# Altium footprint library Altera.PcbLib: 4 footprints (part 4 of 4)
Each footprint in its own frame and in the unit in brackets; x right, y up, seen from the top. Pads: shape width x height; smd on the part's side, far side on the other; paste and mask are expansions set on the pad; w line width, h text height; cw(c..) or ccw(c..) is an arc to the next point about the centre after c.
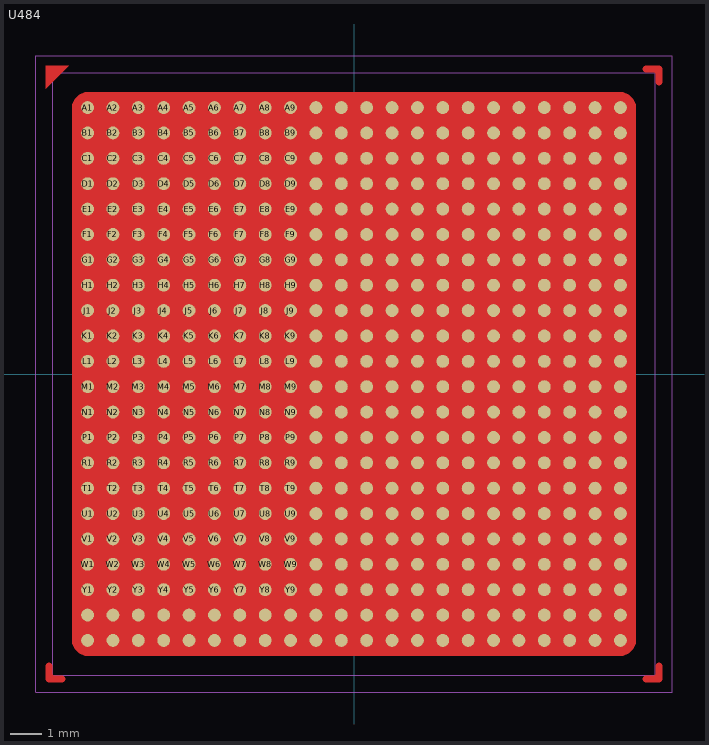
[diagram p3: the footprint, top view; thin cyan lines are the x and y axes]

## U484 [mil]
height 86.61
pads (484):
  round 16 smd mask+2: A1(-330.71,330.71) A2(-299.21,330.71) A3(-267.72,330.71) A4(-236.22,330.71) A5(-204.72,330.71) A6(-173.23,330.71) A7(-141.73,330.71) A8(-110.24,330.71) A9(-78.74,330.71) A10(-47.24,330.71) A11(-15.75,330.71) A12(15.75,330.71) A13(47.24,330.71) A14(78.74,330.71) A15(110.24,330.71) A16(141.73,330.71) A17(173.23,330.71) A18(204.72,330.71) A19(236.22,330.71) A20(267.72,330.71) A21(299.21,330.71) A22(330.71,330.71) AA1(-330.71,-299.21) AA2(-299.21,-299.21) AA3(-267.72,-299.21) AA4(-236.22,-299.21) AA5(-204.72,-299.21) AA6(-173.23,-299.21) AA7(-141.73,-299.21) AA8(-110.24,-299.21) AA9(-78.74,-299.21) AA10(-47.24,-299.21) AA11(-15.75,-299.21) AA12(15.75,-299.21) AA13(47.24,-299.21) AA14(78.74,-299.21) AA15(110.24,-299.21) AA16(141.73,-299.21) AA17(173.23,-299.21) AA18(204.72,-299.21) AA19(236.22,-299.21) AA20(267.72,-299.21) AA21(299.21,-299.21) AA22(330.71,-299.21) AB1(-330.71,-330.71) AB2(-299.21,-330.71) AB3(-267.72,-330.71) AB4(-236.22,-330.71) AB5(-204.72,-330.71) AB6(-173.23,-330.71) AB7(-141.73,-330.71) AB8(-110.24,-330.71) AB9(-78.74,-330.71) AB10(-47.24,-330.71) AB11(-15.75,-330.71) AB12(15.75,-330.71) AB13(47.24,-330.71) AB14(78.74,-330.71) AB15(110.24,-330.71) AB16(141.73,-330.71) AB17(173.23,-330.71) AB18(204.72,-330.71) AB19(236.22,-330.71) AB20(267.72,-330.71) AB21(299.21,-330.71) AB22(330.71,-330.71) B1(-330.71,299.21) B2(-299.21,299.21) B3(-267.72,299.21) B4(-236.22,299.21) B5(-204.72,299.21) B6(-173.23,299.21) B7(-141.73,299.21) B8(-110.24,299.21) B9(-78.74,299.21) B10(-47.24,299.21) B11(-15.75,299.21) B12(15.75,299.21) B13(47.24,299.21) B14(78.74,299.21) B15(110.24,299.21) B16(141.73,299.21) B17(173.23,299.21) B18(204.72,299.21) B19(236.22,299.21) B20(267.72,299.21) B21(299.21,299.21) B22(330.71,299.21) C1(-330.71,267.72) C2(-299.21,267.72) C3(-267.72,267.72) C4(-236.22,267.72) C5(-204.72,267.72) C6(-173.23,267.72) C7(-141.73,267.72) C8(-110.24,267.72) C9(-78.74,267.72) C10(-47.24,267.72) C11(-15.75,267.72) C12(15.75,267.72) C13(47.24,267.72) C14(78.74,267.72) C15(110.24,267.72) C16(141.73,267.72) C17(173.23,267.72) C18(204.72,267.72) C19(236.22,267.72) C20(267.72,267.72) C21(299.21,267.72) C22(330.71,267.72) D1(-330.71,236.22) D2(-299.21,236.22) D3(-267.72,236.22) D4(-236.22,236.22) D5(-204.72,236.22) D6(-173.23,236.22) D7(-141.73,236.22) D8(-110.24,236.22) D9(-78.74,236.22) D10(-47.24,236.22) D11(-15.75,236.22) D12(15.75,236.22) D13(47.24,236.22) D14(78.74,236.22) D15(110.24,236.22) D16(141.73,236.22) D17(173.23,236.22) D18(204.72,236.22) D19(236.22,236.22) D20(267.72,236.22) D21(299.21,236.22) D22(330.71,236.22) E1(-330.71,204.72) E2(-299.21,204.72) E3(-267.72,204.72) E4(-236.22,204.72) E5(-204.72,204.72) E6(-173.23,204.72) E7(-141.73,204.72) E8(-110.24,204.72) E9(-78.74,204.72) E10(-47.24,204.72) E11(-15.75,204.72) E12(15.75,204.72) E13(47.24,204.72) E14(78.74,204.72) E15(110.24,204.72) E16(141.73,204.72) E17(173.23,204.72) E18(204.72,204.72) E19(236.22,204.72) E20(267.72,204.72) E21(299.21,204.72) E22(330.71,204.72) F1(-330.71,173.23) F2(-299.21,173.23) F3(-267.72,173.23) F4(-236.22,173.23) F5(-204.72,173.23) F6(-173.23,173.23) F7(-141.73,173.23) F8(-110.24,173.23) F9(-78.74,173.23) F10(-47.24,173.23) F11(-15.75,173.23) F12(15.75,173.23) F13(47.24,173.23) F14(78.74,173.23) F15(110.24,173.23) F16(141.73,173.23) F17(173.23,173.23) F18(204.72,173.23) F19(236.22,173.23) F20(267.72,173.23) F21(299.21,173.23) F22(330.71,173.23) G1(-330.71,141.73) G2(-299.21,141.73) G3(-267.72,141.73) G4(-236.22,141.73) G5(-204.72,141.73) G6(-173.23,141.73) G7(-141.73,141.73) G8(-110.24,141.73) G9(-78.74,141.73) G10(-47.24,141.73) G11(-15.75,141.73) G12(15.75,141.73) G13(47.24,141.73) G14(78.74,141.73) G15(110.24,141.73) G16(141.73,141.73) G17(173.23,141.73) G18(204.72,141.73) G19(236.22,141.73) G20(267.72,141.73) G21(299.21,141.73) G22(330.71,141.73) H1(-330.71,110.24) H2(-299.21,110.24) H3(-267.72,110.24) H4(-236.22,110.24) H5(-204.72,110.24) H6(-173.23,110.24) H7(-141.73,110.24) H8(-110.24,110.24) H9(-78.74,110.24) H10(-47.24,110.24) H11(-15.75,110.24) H12(15.75,110.24) H13(47.24,110.24) H14(78.74,110.24) H15(110.24,110.24) H16(141.73,110.24) H17(173.23,110.24) H18(204.72,110.24) H19(236.22,110.24) H20(267.72,110.24) H21(299.21,110.24) H22(330.71,110.24) J1(-330.71,78.74) J2(-299.21,78.74) J3(-267.72,78.74) J4(-236.22,78.74) J5(-204.72,78.74) J6(-173.23,78.74) J7(-141.73,78.74) J8(-110.24,78.74) J9(-78.74,78.74) J10(-47.24,78.74) J11(-15.75,78.74) J12(15.75,78.74) J13(47.24,78.74) J14(78.74,78.74) J15(110.24,78.74) J16(141.73,78.74) J17(173.23,78.74) J18(204.72,78.74) J19(236.22,78.74) J20(267.72,78.74) J21(299.21,78.74) J22(330.71,78.74) K1(-330.71,47.24) K2(-299.21,47.24) K3(-267.72,47.24) K4(-236.22,47.24) K5(-204.72,47.24) K6(-173.23,47.24) K7(-141.73,47.24) K8(-110.24,47.24) K9(-78.74,47.24) K10(-47.24,47.24) K11(-15.75,47.24) K12(15.75,47.24) K13(47.24,47.24) K14(78.74,47.24) K15(110.24,47.24) K16(141.73,47.24) K17(173.23,47.24) K18(204.72,47.24) K19(236.22,47.24) K20(267.72,47.24) K21(299.21,47.24) K22(330.71,47.24) L1(-330.71,15.75) L2(-299.21,15.75) L3(-267.72,15.75) L4(-236.22,15.75) L5(-204.72,15.75) L6(-173.23,15.75) L7(-141.73,15.75) L8(-110.24,15.75) L9(-78.74,15.75) L10(-47.24,15.75) L11(-15.75,15.75) L12(15.75,15.75) L13(47.24,15.75) L14(78.74,15.75) L15(110.24,15.75) L16(141.73,15.75) L17(173.23,15.75) L18(204.72,15.75) L19(236.22,15.75) L20(267.72,15.75) L21(299.21,15.75) L22(330.71,15.75) M1(-330.71,-15.75) M2(-299.21,-15.75) M3(-267.72,-15.75) M4(-236.22,-15.75) M5(-204.72,-15.75) M6(-173.23,-15.75) M7(-141.73,-15.75) M8(-110.24,-15.75) M9(-78.74,-15.75) M10(-47.24,-15.75) M11(-15.75,-15.75) M12(15.75,-15.75) M13(47.24,-15.75) M14(78.74,-15.75) M15(110.24,-15.75) M16(141.73,-15.75) M17(173.23,-15.75) M18(204.72,-15.75) M19(236.22,-15.75) M20(267.72,-15.75) M21(299.21,-15.75) M22(330.71,-15.75) N1(-330.71,-47.24) N2(-299.21,-47.24) N3(-267.72,-47.24) N4(-236.22,-47.24) N5(-204.72,-47.24) N6(-173.23,-47.24) N7(-141.73,-47.24) N8(-110.24,-47.24) N9(-78.74,-47.24) N10(-47.24,-47.24) N11(-15.75,-47.24) N12(15.75,-47.24) N13(47.24,-47.24) N14(78.74,-47.24) N15(110.24,-47.24) N16(141.73,-47.24) N17(173.23,-47.24) N18(204.72,-47.24) N19(236.22,-47.24) N20(267.72,-47.24) N21(299.21,-47.24) N22(330.71,-47.24) P1(-330.71,-78.74) P2(-299.21,-78.74) P3(-267.72,-78.74) P4(-236.22,-78.74) P5(-204.72,-78.74) P6(-173.23,-78.74) P7(-141.73,-78.74) P8(-110.24,-78.74) P9(-78.74,-78.74) P10(-47.24,-78.74) P11(-15.75,-78.74) P12(15.75,-78.74) P13(47.24,-78.74) P14(78.74,-78.74) P15(110.24,-78.74) P16(141.73,-78.74) P17(173.23,-78.74) P18(204.72,-78.74) P19(236.22,-78.74) P20(267.72,-78.74) P21(299.21,-78.74) P22(330.71,-78.74) R1(-330.71,-110.24) R2(-299.21,-110.24) R3(-267.72,-110.24) R4(-236.22,-110.24) R5(-204.72,-110.24) R6(-173.23,-110.24) R7(-141.73,-110.24) R8(-110.24,-110.24) R9(-78.74,-110.24) R10(-47.24,-110.24) R11(-15.75,-110.24) R12(15.75,-110.24) R13(47.24,-110.24) R14(78.74,-110.24) R15(110.24,-110.24) R16(141.73,-110.24) R17(173.23,-110.24) R18(204.72,-110.24) R19(236.22,-110.24) R20(267.72,-110.24) R21(299.21,-110.24) R22(330.71,-110.24) T1(-330.71,-141.73) T2(-299.21,-141.73) T3(-267.72,-141.73) T4(-236.22,-141.73) T5(-204.72,-141.73) T6(-173.23,-141.73) T7(-141.73,-141.73) T8(-110.24,-141.73) T9(-78.74,-141.73) T10(-47.24,-141.73) T11(-15.75,-141.73) T12(15.75,-141.73) T13(47.24,-141.73) T14(78.74,-141.73) T15(110.24,-141.73) T16(141.73,-141.73) T17(173.23,-141.73) T18(204.72,-141.73) T19(236.22,-141.73) T20(267.72,-141.73) T21(299.21,-141.73) T22(330.71,-141.73) U1(-330.71,-173.23) U2(-299.21,-173.23) U3(-267.72,-173.23) U4(-236.22,-173.23) U5(-204.72,-173.23) U6(-173.23,-173.23) U7(-141.73,-173.23) U8(-110.24,-173.23) U9(-78.74,-173.23) U10(-47.24,-173.23) U11(-15.75,-173.23) U12(15.75,-173.23) U13(47.24,-173.23) U14(78.74,-173.23) U15(110.24,-173.23) U16(141.73,-173.23) U17(173.23,-173.23) U18(204.72,-173.23) U19(236.22,-173.23) U20(267.72,-173.23) U21(299.21,-173.23) U22(330.71,-173.23) V1(-330.71,-204.72) V2(-299.21,-204.72) V3(-267.72,-204.72) V4(-236.22,-204.72) V5(-204.72,-204.72) V6(-173.23,-204.72) V7(-141.73,-204.72) V8(-110.24,-204.72) V9(-78.74,-204.72) V10(-47.24,-204.72) V11(-15.75,-204.72) V12(15.75,-204.72) V13(47.24,-204.72) V14(78.74,-204.72) V15(110.24,-204.72) V16(141.73,-204.72) V17(173.23,-204.72) V18(204.72,-204.72) V19(236.22,-204.72) V20(267.72,-204.72) V21(299.21,-204.72) V22(330.71,-204.72) W1(-330.71,-236.22) W2(-299.21,-236.22) W3(-267.72,-236.22) W4(-236.22,-236.22) W5(-204.72,-236.22) W6(-173.23,-236.22) W7(-141.73,-236.22) W8(-110.24,-236.22) W9(-78.74,-236.22) W10(-47.24,-236.22) W11(-15.75,-236.22) W12(15.75,-236.22) W13(47.24,-236.22) W14(78.74,-236.22) W15(110.24,-236.22) W16(141.73,-236.22) W17(173.23,-236.22) W18(204.72,-236.22) W19(236.22,-236.22) W20(267.72,-236.22) W21(299.21,-236.22) W22(330.71,-236.22) Y1(-330.71,-267.72) Y2(-299.21,-267.72) Y3(-267.72,-267.72) Y4(-236.22,-267.72) Y5(-204.72,-267.72) Y6(-173.23,-267.72) Y7(-141.73,-267.72) Y8(-110.24,-267.72) Y9(-78.74,-267.72) Y10(-47.24,-267.72) Y11(-15.75,-267.72) Y12(15.75,-267.72) Y13(47.24,-267.72) Y14(78.74,-267.72) Y15(110.24,-267.72) Y16(141.73,-267.72) Y17(173.23,-267.72) Y18(204.72,-267.72) Y19(236.22,-267.72) Y20(267.72,-267.72) Y21(299.21,-267.72) Y22(330.71,-267.72)
Top Layer:
  region: -382.48,382.48 -382.48,353.94 -353.94,382.48
  region: -374.48,-362.48 -374.48,-361.68 -375.09,-360.21 -376.21,-359.09 -377.68,-358.48 -378.48,-358.48 -379.28,-358.48 -380.75,-359.09 -381.87,-360.21 -382.48,-361.68 -382.48,-362.48 -382.48,-378.48 -382.48,-379.28 -381.87,-380.75 -380.75,-381.87 -379.28,-382.48 -378.48,-382.48 -362.48,-382.48 -361.68,-382.48 -360.21,-381.87 -359.09,-380.75 -358.48,-379.28 -358.48,-378.48 -358.48,-377.68 -359.09,-376.21 -360.21,-375.09 -361.68,-374.48 -362.48,-374.48 -372.48,-374.48 -372.87,-374.44 -373.59,-374.14 -374.14,-373.59 -374.44,-372.87 -374.48,-372.48
  region: 362.48,-374.48 361.69,-374.48 360.22,-375.09 359.09,-376.21 358.48,-377.68 358.48,-378.48 358.48,-379.28 359.09,-380.75 360.22,-381.87 361.69,-382.48 362.48,-382.48 378.48,-382.48 379.28,-382.48 380.75,-381.87 381.87,-380.75 382.48,-379.28 382.48,-378.48 382.48,-362.48 382.48,-361.68 381.87,-360.21 380.75,-359.09 379.28,-358.48 378.48,-358.48 377.69,-358.48 376.22,-359.09 375.09,-360.21 374.48,-361.68 374.48,-362.48 374.48,-372.48 374.44,-372.87 374.14,-373.59 373.59,-374.14 372.87,-374.44 372.48,-374.48
  region: 374.48,362.48 374.48,361.68 375.09,360.21 376.21,359.09 377.68,358.48 378.48,358.48 379.28,358.48 380.75,359.09 381.87,360.21 382.48,361.68 382.48,362.48 382.48,378.48 382.48,379.28 381.87,380.75 380.75,381.87 379.28,382.48 378.48,382.48 362.48,382.48 361.68,382.48 360.21,381.87 359.09,380.75 358.48,379.28 358.48,378.48 358.48,377.68 359.09,376.21 360.21,375.09 361.68,374.48 362.48,374.48 372.48,374.48 372.87,374.44 373.59,374.14 374.14,373.59 374.44,372.87 374.48,372.48
  pour cut-out: -330,350 -333.98,350 -341.33,346.96 -346.96,341.33 -350,333.98 -350,330 -350,-330 -350,-333.98 -346.96,-341.33 -341.33,-346.96 -333.98,-350 -330,-350 330,-350 333.98,-350 341.33,-346.96 346.96,-341.33 350,-333.98 350,-330 350,330 350,333.98 346.96,341.33 341.33,346.96 333.98,350 330,350
Top Component Outline:
  lines w1: -395,-395 395,-395 395,395 -395,395 -395,-395
Top 3D Body (Mech16):
  lines w1: -374.02,-374.02 374.02,-374.02 374.02,374.02 -374.02,374.02 -374.02,-374.02
3D body: height 16.84, standoff -2.84, extent -340.51,320.97 -320.91,340.56
3D body: height 86.61, standoff 23.62, extent -374.02,-374.02 374.02,374.02
3D body: height 16.84, standoff -2.84, extent -340.51,289.48 -320.91,309.06
3D body: height 16.84, standoff -2.84, extent -340.51,257.98 -320.91,277.57
3D body: height 16.84, standoff -2.84, extent -340.51,226.49 -320.91,246.07
3D body: height 16.84, standoff -2.84, extent -340.51,194.99 -320.91,214.57
3D body: height 16.84, standoff -2.84, extent -340.51,37.51 -320.91,57.09
3D body: height 16.84, standoff -2.84, extent -340.51,69.01 -320.91,88.59
3D body: height 16.84, standoff -2.84, extent -340.51,100.5 -320.91,120.09
3D body: height 16.84, standoff -2.84, extent -340.51,132 -320.91,151.58
3D body: height 16.84, standoff -2.84, extent -340.51,163.49 -320.91,183.08
3D body: height 16.84, standoff -2.84, extent -340.51,-119.97 -320.91,-100.39
3D body: height 16.84, standoff -2.84, extent -340.51,-88.47 -320.91,-68.89
3D body: height 16.84, standoff -2.84, extent -340.51,-56.98 -320.91,-37.39
3D body: height 16.84, standoff -2.84, extent -340.51,-25.48 -320.91,-5.9
3D body: height 16.84, standoff -2.84, extent -340.51,6.01 -320.91,25.6
3D body: height 16.84, standoff -2.84, extent -340.51,-277.45 -320.91,-257.87
3D body: height 16.84, standoff -2.84, extent -340.51,-245.95 -320.91,-226.37
3D body: height 16.84, standoff -2.84, extent -340.51,-214.46 -320.91,-194.87
3D body: height 16.84, standoff -2.84, extent -340.51,-182.96 -320.91,-163.38
3D body: height 16.84, standoff -2.84, extent -340.51,-151.47 -320.91,-131.88
3D body: height 16.84, standoff -2.84, extent -340.51,-340.44 -320.91,-320.86
3D body: height 16.84, standoff -2.84, extent -340.51,-308.95 -320.91,-289.36
3D body: height 16.84, standoff -2.84, extent -309.02,-308.95 -289.41,-289.36
3D body: height 16.84, standoff -2.84, extent -277.52,-308.95 -257.92,-289.36
3D body: height 16.84, standoff -2.84, extent -246.02,-308.95 -226.42,-289.36
3D body: height 16.84, standoff -2.84, extent -214.53,-308.95 -194.93,-289.36
3D body: height 16.84, standoff -2.84, extent -88.54,-308.95 -68.94,-289.36
3D body: height 16.84, standoff -2.84, extent -120.04,-308.95 -100.44,-289.36
3D body: height 16.84, standoff -2.84, extent -151.54,-308.95 -131.93,-289.36
3D body: height 16.84, standoff -2.84, extent -183.03,-308.95 -163.43,-289.36
3D body: height 16.84, standoff -2.84, extent 37.44,-308.95 57.04,-289.36
3D body: height 16.84, standoff -2.84, extent 5.94,-308.95 25.55,-289.36
3D body: height 16.84, standoff -2.84, extent -25.55,-308.95 -5.95,-289.36
3D body: height 16.84, standoff -2.84, extent -57.05,-308.95 -37.44,-289.36
3D body: height 16.84, standoff -2.84, extent 163.42,-308.95 183.03,-289.36
3D body: height 16.84, standoff -2.84, extent 131.93,-308.95 151.53,-289.36
3D body: height 16.84, standoff -2.84, extent 100.43,-308.95 120.04,-289.36
3D body: height 16.84, standoff -2.84, extent 68.94,-308.95 88.54,-289.36
3D body: height 16.84, standoff -2.84, extent 289.41,-308.95 309.01,-289.36
3D body: height 16.84, standoff -2.84, extent 257.91,-308.95 277.52,-289.36
3D body: height 16.84, standoff -2.84, extent 226.42,-308.95 246.02,-289.36
3D body: height 16.84, standoff -2.84, extent 194.92,-308.95 214.52,-289.36
3D body: height 16.84, standoff -2.84, extent 320.91,-308.95 340.51,-289.36
3D body: height 16.84, standoff -2.84, extent 320.91,-340.44 340.51,-320.86
3D body: height 16.84, standoff -2.84, extent 194.92,-340.44 214.52,-320.86
3D body: height 16.84, standoff -2.84, extent 226.42,-340.44 246.02,-320.86
3D body: height 16.84, standoff -2.84, extent 257.91,-340.44 277.52,-320.86
3D body: height 16.84, standoff -2.84, extent 289.41,-340.44 309.01,-320.86
3D body: height 16.84, standoff -2.84, extent 68.94,-340.44 88.54,-320.86
3D body: height 16.84, standoff -2.84, extent 100.43,-340.44 120.04,-320.86
3D body: height 16.84, standoff -2.84, extent 131.93,-340.44 151.53,-320.86
3D body: height 16.84, standoff -2.84, extent 163.42,-340.44 183.03,-320.86
3D body: height 16.84, standoff -2.84, extent -57.05,-340.44 -37.44,-320.86
3D body: height 16.84, standoff -2.84, extent -25.55,-340.44 -5.95,-320.86
3D body: height 16.84, standoff -2.84, extent 5.94,-340.44 25.55,-320.86
3D body: height 16.84, standoff -2.84, extent 37.44,-340.44 57.04,-320.86
3D body: height 16.84, standoff -2.84, extent -183.03,-340.44 -163.43,-320.86
3D body: height 16.84, standoff -2.84, extent -151.54,-340.44 -131.93,-320.86
3D body: height 16.84, standoff -2.84, extent -120.04,-340.44 -100.44,-320.86
3D body: height 16.84, standoff -2.84, extent -88.54,-340.44 -68.94,-320.86
3D body: height 16.84, standoff -2.84, extent -214.53,-340.44 -194.93,-320.86
3D body: height 16.84, standoff -2.84, extent -246.02,-340.44 -226.42,-320.86
3D body: height 16.84, standoff -2.84, extent -277.52,-340.44 -257.92,-320.86
3D body: height 16.84, standoff -2.84, extent -309.02,-340.44 -289.41,-320.86
3D body: height 16.84, standoff -2.84, extent -309.02,-151.47 -289.41,-131.88
3D body: height 16.84, standoff -2.84, extent -277.52,-151.47 -257.92,-131.88
3D body: height 16.84, standoff -2.84, extent -246.02,-151.47 -226.42,-131.88
3D body: height 16.84, standoff -2.84, extent -214.53,-151.47 -194.93,-131.88
3D body: height 16.84, standoff -2.84, extent -88.54,-151.47 -68.94,-131.88
3D body: height 16.84, standoff -2.84, extent -120.04,-151.47 -100.44,-131.88
3D body: height 16.84, standoff -2.84, extent -151.54,-151.47 -131.93,-131.88
3D body: height 16.84, standoff -2.84, extent -183.03,-151.47 -163.43,-131.88
3D body: height 16.84, standoff -2.84, extent 37.44,-151.47 57.04,-131.88
3D body: height 16.84, standoff -2.84, extent 5.94,-151.47 25.55,-131.88
3D body: height 16.84, standoff -2.84, extent -25.55,-151.47 -5.95,-131.88
3D body: height 16.84, standoff -2.84, extent -57.05,-151.47 -37.44,-131.88
3D body: height 16.84, standoff -2.84, extent 163.42,-151.47 183.03,-131.88
3D body: height 16.84, standoff -2.84, extent 131.93,-151.47 151.53,-131.88
3D body: height 16.84, standoff -2.84, extent 100.43,-151.47 120.04,-131.88
3D body: height 16.84, standoff -2.84, extent 68.94,-151.47 88.54,-131.88
3D body: height 16.84, standoff -2.84, extent 289.41,-151.47 309.01,-131.88
3D body: height 16.84, standoff -2.84, extent 257.91,-151.47 277.52,-131.88
3D body: height 16.84, standoff -2.84, extent 226.42,-151.47 246.02,-131.88
3D body: height 16.84, standoff -2.84, extent 194.92,-151.47 214.52,-131.88
3D body: height 16.84, standoff -2.84, extent 320.91,-151.47 340.51,-131.88
3D body: height 16.84, standoff -2.84, extent 320.91,-182.96 340.51,-163.38
3D body: height 16.84, standoff -2.84, extent 194.92,-182.96 214.52,-163.38
3D body: height 16.84, standoff -2.84, extent 226.42,-182.96 246.02,-163.38
3D body: height 16.84, standoff -2.84, extent 257.91,-182.96 277.52,-163.38
3D body: height 16.84, standoff -2.84, extent 289.41,-182.96 309.01,-163.38
3D body: height 16.84, standoff -2.84, extent 68.94,-182.96 88.54,-163.38
3D body: height 16.84, standoff -2.84, extent 100.43,-182.96 120.04,-163.38
3D body: height 16.84, standoff -2.84, extent 131.93,-182.96 151.53,-163.38
3D body: height 16.84, standoff -2.84, extent 163.42,-182.96 183.03,-163.38
3D body: height 16.84, standoff -2.84, extent -57.05,-182.96 -37.44,-163.38
3D body: height 16.84, standoff -2.84, extent -25.55,-182.96 -5.95,-163.38
3D body: height 16.84, standoff -2.84, extent 5.94,-182.96 25.55,-163.38
3D body: height 16.84, standoff -2.84, extent 37.44,-182.96 57.04,-163.38
3D body: height 16.84, standoff -2.84, extent -183.03,-182.96 -163.43,-163.38
3D body: height 16.84, standoff -2.84, extent -151.54,-182.96 -131.93,-163.38
3D body: height 16.84, standoff -2.84, extent -120.04,-182.96 -100.44,-163.38
3D body: height 16.84, standoff -2.84, extent -88.54,-182.96 -68.94,-163.38
3D body: height 16.84, standoff -2.84, extent -214.53,-182.96 -194.93,-163.38
3D body: height 16.84, standoff -2.84, extent -246.02,-182.96 -226.42,-163.38
3D body: height 16.84, standoff -2.84, extent -277.52,-182.96 -257.92,-163.38
3D body: height 16.84, standoff -2.84, extent -309.02,-182.96 -289.41,-163.38
3D body: height 16.84, standoff -2.84, extent 320.91,-214.46 340.51,-194.87
3D body: height 16.84, standoff -2.84, extent 194.92,-214.46 214.52,-194.87
3D body: height 16.84, standoff -2.84, extent 226.42,-214.46 246.02,-194.87
3D body: height 16.84, standoff -2.84, extent 257.91,-214.46 277.52,-194.87
3D body: height 16.84, standoff -2.84, extent 289.41,-214.46 309.01,-194.87
3D body: height 16.84, standoff -2.84, extent 68.94,-214.46 88.54,-194.87
3D body: height 16.84, standoff -2.84, extent 100.43,-214.46 120.04,-194.87
3D body: height 16.84, standoff -2.84, extent 131.93,-214.46 151.53,-194.87
3D body: height 16.84, standoff -2.84, extent 163.42,-214.46 183.03,-194.87
3D body: height 16.84, standoff -2.84, extent -57.05,-214.46 -37.44,-194.87
3D body: height 16.84, standoff -2.84, extent -25.55,-214.46 -5.95,-194.87
3D body: height 16.84, standoff -2.84, extent 5.94,-214.46 25.55,-194.87
3D body: height 16.84, standoff -2.84, extent 37.44,-214.46 57.04,-194.87
3D body: height 16.84, standoff -2.84, extent -183.03,-214.46 -163.43,-194.87
3D body: height 16.84, standoff -2.84, extent -151.54,-214.46 -131.93,-194.87
3D body: height 16.84, standoff -2.84, extent -120.04,-214.46 -100.44,-194.87
3D body: height 16.84, standoff -2.84, extent -88.54,-214.46 -68.94,-194.87
3D body: height 16.84, standoff -2.84, extent -214.53,-214.46 -194.93,-194.87
3D body: height 16.84, standoff -2.84, extent -246.02,-214.46 -226.42,-194.87
3D body: height 16.84, standoff -2.84, extent -277.52,-214.46 -257.92,-194.87
3D body: height 16.84, standoff -2.84, extent -309.02,-214.46 -289.41,-194.87
3D body: height 16.84, standoff -2.84, extent 320.91,-245.95 340.51,-226.37
3D body: height 16.84, standoff -2.84, extent 194.92,-245.95 214.52,-226.37
3D body: height 16.84, standoff -2.84, extent 226.42,-245.95 246.02,-226.37
3D body: height 16.84, standoff -2.84, extent 257.91,-245.95 277.52,-226.37
3D body: height 16.84, standoff -2.84, extent 289.41,-245.95 309.01,-226.37
3D body: height 16.84, standoff -2.84, extent 68.94,-245.95 88.54,-226.37
3D body: height 16.84, standoff -2.84, extent 100.43,-245.95 120.04,-226.37
3D body: height 16.84, standoff -2.84, extent 131.93,-245.95 151.53,-226.37
3D body: height 16.84, standoff -2.84, extent 163.42,-245.95 183.03,-226.37
3D body: height 16.84, standoff -2.84, extent -57.05,-245.95 -37.44,-226.37
3D body: height 16.84, standoff -2.84, extent -25.55,-245.95 -5.95,-226.37
3D body: height 16.84, standoff -2.84, extent 5.94,-245.95 25.55,-226.37
3D body: height 16.84, standoff -2.84, extent 37.44,-245.95 57.04,-226.37
3D body: height 16.84, standoff -2.84, extent -183.03,-245.95 -163.43,-226.37
3D body: height 16.84, standoff -2.84, extent -151.54,-245.95 -131.93,-226.37
3D body: height 16.84, standoff -2.84, extent -120.04,-245.95 -100.44,-226.37
3D body: height 16.84, standoff -2.84, extent -88.54,-245.95 -68.94,-226.37
3D body: height 16.84, standoff -2.84, extent -214.53,-245.95 -194.93,-226.37
3D body: height 16.84, standoff -2.84, extent -246.02,-245.95 -226.42,-226.37
3D body: height 16.84, standoff -2.84, extent -277.52,-245.95 -257.92,-226.37
3D body: height 16.84, standoff -2.84, extent -309.02,-245.95 -289.41,-226.37
3D body: height 16.84, standoff -2.84, extent 320.91,-277.45 340.51,-257.87
3D body: height 16.84, standoff -2.84, extent 194.92,-277.45 214.52,-257.87
3D body: height 16.84, standoff -2.84, extent 226.42,-277.45 246.02,-257.87
3D body: height 16.84, standoff -2.84, extent 257.91,-277.45 277.52,-257.87
3D body: height 16.84, standoff -2.84, extent 289.41,-277.45 309.01,-257.87
3D body: height 16.84, standoff -2.84, extent 68.94,-277.45 88.54,-257.87
3D body: height 16.84, standoff -2.84, extent 100.43,-277.45 120.04,-257.87
3D body: height 16.84, standoff -2.84, extent 131.93,-277.45 151.53,-257.87
3D body: height 16.84, standoff -2.84, extent 163.42,-277.45 183.03,-257.87
3D body: height 16.84, standoff -2.84, extent -57.05,-277.45 -37.44,-257.87
3D body: height 16.84, standoff -2.84, extent -25.55,-277.45 -5.95,-257.87
3D body: height 16.84, standoff -2.84, extent 5.94,-277.45 25.55,-257.87
3D body: height 16.84, standoff -2.84, extent 37.44,-277.45 57.04,-257.87
3D body: height 16.84, standoff -2.84, extent -183.03,-277.45 -163.43,-257.87
3D body: height 16.84, standoff -2.84, extent -151.54,-277.45 -131.93,-257.87
3D body: height 16.84, standoff -2.84, extent -120.04,-277.45 -100.44,-257.87
3D body: height 16.84, standoff -2.84, extent -88.54,-277.45 -68.94,-257.87
3D body: height 16.84, standoff -2.84, extent -214.53,-277.45 -194.93,-257.87
3D body: height 16.84, standoff -2.84, extent -246.02,-277.45 -226.42,-257.87
3D body: height 16.84, standoff -2.84, extent -277.52,-277.45 -257.92,-257.87
3D body: height 16.84, standoff -2.84, extent -309.02,-277.45 -289.41,-257.87
3D body: height 16.84, standoff -2.84, extent -309.02,6.01 -289.41,25.6
3D body: height 16.84, standoff -2.84, extent -277.52,6.01 -257.92,25.6
3D body: height 16.84, standoff -2.84, extent -246.02,6.01 -226.42,25.6
3D body: height 16.84, standoff -2.84, extent -214.53,6.01 -194.93,25.6
3D body: height 16.84, standoff -2.84, extent -88.54,6.01 -68.94,25.6
3D body: height 16.84, standoff -2.84, extent -120.04,6.01 -100.44,25.6
3D body: height 16.84, standoff -2.84, extent -151.54,6.01 -131.93,25.6
3D body: height 16.84, standoff -2.84, extent -183.03,6.01 -163.43,25.6
3D body: height 16.84, standoff -2.84, extent 37.44,6.01 57.04,25.6
3D body: height 16.84, standoff -2.84, extent 5.94,6.01 25.55,25.6
3D body: height 16.84, standoff -2.84, extent -25.55,6.01 -5.95,25.6
3D body: height 16.84, standoff -2.84, extent -57.05,6.01 -37.44,25.6
3D body: height 16.84, standoff -2.84, extent 163.42,6.01 183.03,25.6
3D body: height 16.84, standoff -2.84, extent 131.93,6.01 151.53,25.6
3D body: height 16.84, standoff -2.84, extent 100.43,6.01 120.04,25.6
3D body: height 16.84, standoff -2.84, extent 68.94,6.01 88.54,25.6
3D body: height 16.84, standoff -2.84, extent 289.41,6.01 309.01,25.6
3D body: height 16.84, standoff -2.84, extent 257.91,6.01 277.52,25.6
3D body: height 16.84, standoff -2.84, extent 226.42,6.01 246.02,25.6
3D body: height 16.84, standoff -2.84, extent 194.92,6.01 214.52,25.6
3D body: height 16.84, standoff -2.84, extent 320.91,6.01 340.51,25.6
3D body: height 16.84, standoff -2.84, extent 320.91,-25.48 340.51,-5.9
3D body: height 16.84, standoff -2.84, extent 194.92,-25.48 214.52,-5.9
3D body: height 16.84, standoff -2.84, extent 226.42,-25.48 246.02,-5.9
3D body: height 16.84, standoff -2.84, extent 257.91,-25.48 277.52,-5.9
3D body: height 16.84, standoff -2.84, extent 289.41,-25.48 309.01,-5.9
3D body: height 16.84, standoff -2.84, extent 68.94,-25.48 88.54,-5.9
3D body: height 16.84, standoff -2.84, extent 100.43,-25.48 120.04,-5.9
3D body: height 16.84, standoff -2.84, extent 131.93,-25.48 151.53,-5.9
3D body: height 16.84, standoff -2.84, extent 163.42,-25.48 183.03,-5.9
3D body: height 16.84, standoff -2.84, extent -57.05,-25.48 -37.44,-5.9
3D body: height 16.84, standoff -2.84, extent -25.55,-25.48 -5.95,-5.9
3D body: height 16.84, standoff -2.84, extent 5.94,-25.48 25.55,-5.9
3D body: height 16.84, standoff -2.84, extent 37.44,-25.48 57.04,-5.9
3D body: height 16.84, standoff -2.84, extent -183.03,-25.48 -163.43,-5.9
3D body: height 16.84, standoff -2.84, extent -151.54,-25.48 -131.93,-5.9
3D body: height 16.84, standoff -2.84, extent -120.04,-25.48 -100.44,-5.9
3D body: height 16.84, standoff -2.84, extent -88.54,-25.48 -68.94,-5.9
3D body: height 16.84, standoff -2.84, extent -214.53,-25.48 -194.93,-5.9
3D body: height 16.84, standoff -2.84, extent -246.02,-25.48 -226.42,-5.9
3D body: height 16.84, standoff -2.84, extent -277.52,-25.48 -257.92,-5.9
3D body: height 16.84, standoff -2.84, extent -309.02,-25.48 -289.41,-5.9
3D body: height 16.84, standoff -2.84, extent 320.91,-56.98 340.51,-37.39
3D body: height 16.84, standoff -2.84, extent 194.92,-56.98 214.52,-37.39
3D body: height 16.84, standoff -2.84, extent 226.42,-56.98 246.02,-37.39
3D body: height 16.84, standoff -2.84, extent 257.91,-56.98 277.52,-37.39
3D body: height 16.84, standoff -2.84, extent 289.41,-56.98 309.01,-37.39
3D body: height 16.84, standoff -2.84, extent 68.94,-56.98 88.54,-37.39
3D body: height 16.84, standoff -2.84, extent 100.43,-56.98 120.04,-37.39
3D body: height 16.84, standoff -2.84, extent 131.93,-56.98 151.53,-37.39
3D body: height 16.84, standoff -2.84, extent 163.42,-56.98 183.03,-37.39
3D body: height 16.84, standoff -2.84, extent -57.05,-56.98 -37.44,-37.39
3D body: height 16.84, standoff -2.84, extent -25.55,-56.98 -5.95,-37.39
3D body: height 16.84, standoff -2.84, extent 5.94,-56.98 25.55,-37.39
3D body: height 16.84, standoff -2.84, extent 37.44,-56.98 57.04,-37.39
3D body: height 16.84, standoff -2.84, extent -183.03,-56.98 -163.43,-37.39
3D body: height 16.84, standoff -2.84, extent -151.54,-56.98 -131.93,-37.39
3D body: height 16.84, standoff -2.84, extent -120.04,-56.98 -100.44,-37.39
3D body: height 16.84, standoff -2.84, extent -88.54,-56.98 -68.94,-37.39
3D body: height 16.84, standoff -2.84, extent -214.53,-56.98 -194.93,-37.39
3D body: height 16.84, standoff -2.84, extent -246.02,-56.98 -226.42,-37.39
3D body: height 16.84, standoff -2.84, extent -277.52,-56.98 -257.92,-37.39
3D body: height 16.84, standoff -2.84, extent -309.02,-56.98 -289.41,-37.39
3D body: height 16.84, standoff -2.84, extent 320.91,-88.47 340.51,-68.89
3D body: height 16.84, standoff -2.84, extent 194.92,-88.47 214.52,-68.89
3D body: height 16.84, standoff -2.84, extent 226.42,-88.47 246.02,-68.89
3D body: height 16.84, standoff -2.84, extent 257.91,-88.47 277.52,-68.89
3D body: height 16.84, standoff -2.84, extent 289.41,-88.47 309.01,-68.89
3D body: height 16.84, standoff -2.84, extent 68.94,-88.47 88.54,-68.89
3D body: height 16.84, standoff -2.84, extent 100.43,-88.47 120.04,-68.89
3D body: height 16.84, standoff -2.84, extent 131.93,-88.47 151.53,-68.89
3D body: height 16.84, standoff -2.84, extent 163.42,-88.47 183.03,-68.89
3D body: height 16.84, standoff -2.84, extent -57.05,-88.47 -37.44,-68.89
3D body: height 16.84, standoff -2.84, extent -25.55,-88.47 -5.95,-68.89
3D body: height 16.84, standoff -2.84, extent 5.94,-88.47 25.55,-68.89
3D body: height 16.84, standoff -2.84, extent 37.44,-88.47 57.04,-68.89
3D body: height 16.84, standoff -2.84, extent -183.03,-88.47 -163.43,-68.89
3D body: height 16.84, standoff -2.84, extent -151.54,-88.47 -131.93,-68.89
3D body: height 16.84, standoff -2.84, extent -120.04,-88.47 -100.44,-68.89
3D body: height 16.84, standoff -2.84, extent -88.54,-88.47 -68.94,-68.89
3D body: height 16.84, standoff -2.84, extent -214.53,-88.47 -194.93,-68.89
3D body: height 16.84, standoff -2.84, extent -246.02,-88.47 -226.42,-68.89
3D body: height 16.84, standoff -2.84, extent -277.52,-88.47 -257.92,-68.89
3D body: height 16.84, standoff -2.84, extent -309.02,-88.47 -289.41,-68.89
3D body: height 16.84, standoff -2.84, extent 320.91,-119.97 340.51,-100.39
3D body: height 16.84, standoff -2.84, extent 194.92,-119.97 214.52,-100.39
3D body: height 16.84, standoff -2.84, extent 226.42,-119.97 246.02,-100.39
3D body: height 16.84, standoff -2.84, extent 257.91,-119.97 277.52,-100.39
3D body: height 16.84, standoff -2.84, extent 289.41,-119.97 309.01,-100.39
3D body: height 16.84, standoff -2.84, extent 68.94,-119.97 88.54,-100.39
3D body: height 16.84, standoff -2.84, extent 100.43,-119.97 120.04,-100.39
3D body: height 16.84, standoff -2.84, extent 131.93,-119.97 151.53,-100.39
3D body: height 16.84, standoff -2.84, extent 163.42,-119.97 183.03,-100.39
3D body: height 16.84, standoff -2.84, extent -57.05,-119.97 -37.44,-100.39
3D body: height 16.84, standoff -2.84, extent -25.55,-119.97 -5.95,-100.39
3D body: height 16.84, standoff -2.84, extent 5.94,-119.97 25.55,-100.39
3D body: height 16.84, standoff -2.84, extent 37.44,-119.97 57.04,-100.39
3D body: height 16.84, standoff -2.84, extent -183.03,-119.97 -163.43,-100.39
3D body: height 16.84, standoff -2.84, extent -151.54,-119.97 -131.93,-100.39
3D body: height 16.84, standoff -2.84, extent -120.04,-119.97 -100.44,-100.39
3D body: height 16.84, standoff -2.84, extent -88.54,-119.97 -68.94,-100.39
3D body: height 16.84, standoff -2.84, extent -214.53,-119.97 -194.93,-100.39
3D body: height 16.84, standoff -2.84, extent -246.02,-119.97 -226.42,-100.39
3D body: height 16.84, standoff -2.84, extent -277.52,-119.97 -257.92,-100.39
3D body: height 16.84, standoff -2.84, extent -309.02,-119.97 -289.41,-100.39
3D body: height 16.84, standoff -2.84, extent -309.02,163.49 -289.41,183.08
3D body: height 16.84, standoff -2.84, extent -277.52,163.49 -257.92,183.08
3D body: height 16.84, standoff -2.84, extent -246.02,163.49 -226.42,183.08
3D body: height 16.84, standoff -2.84, extent -214.53,163.49 -194.93,183.08
3D body: height 16.84, standoff -2.84, extent -88.54,163.49 -68.94,183.08
3D body: height 16.84, standoff -2.84, extent -120.04,163.49 -100.44,183.08
3D body: height 16.84, standoff -2.84, extent -151.54,163.49 -131.93,183.08
3D body: height 16.84, standoff -2.84, extent -183.03,163.49 -163.43,183.08
3D body: height 16.84, standoff -2.84, extent 37.44,163.49 57.04,183.08
3D body: height 16.84, standoff -2.84, extent 5.94,163.49 25.55,183.08
3D body: height 16.84, standoff -2.84, extent -25.55,163.49 -5.95,183.08
3D body: height 16.84, standoff -2.84, extent -57.05,163.49 -37.44,183.08
3D body: height 16.84, standoff -2.84, extent 163.42,163.49 183.03,183.08
3D body: height 16.84, standoff -2.84, extent 131.93,163.49 151.53,183.08
3D body: height 16.84, standoff -2.84, extent 100.43,163.49 120.04,183.08
3D body: height 16.84, standoff -2.84, extent 68.94,163.49 88.54,183.08
3D body: height 16.84, standoff -2.84, extent 289.41,163.49 309.01,183.08
3D body: height 16.84, standoff -2.84, extent 257.91,163.49 277.52,183.08
3D body: height 16.84, standoff -2.84, extent 226.42,163.49 246.02,183.08
3D body: height 16.84, standoff -2.84, extent 194.92,163.49 214.52,183.08
3D body: height 16.84, standoff -2.84, extent 320.91,163.49 340.51,183.08
3D body: height 16.84, standoff -2.84, extent 320.91,132 340.51,151.58
3D body: height 16.84, standoff -2.84, extent 194.92,132 214.52,151.58
3D body: height 16.84, standoff -2.84, extent 226.42,132 246.02,151.58
3D body: height 16.84, standoff -2.84, extent 257.91,132 277.52,151.58
3D body: height 16.84, standoff -2.84, extent 289.41,132 309.01,151.58
3D body: height 16.84, standoff -2.84, extent 68.94,132 88.54,151.58
3D body: height 16.84, standoff -2.84, extent 100.43,132 120.04,151.58
3D body: height 16.84, standoff -2.84, extent 131.93,132 151.53,151.58
3D body: height 16.84, standoff -2.84, extent 163.42,132 183.03,151.58
3D body: height 16.84, standoff -2.84, extent -57.05,132 -37.44,151.58
3D body: height 16.84, standoff -2.84, extent -25.55,132 -5.95,151.58
3D body: height 16.84, standoff -2.84, extent 5.94,132 25.55,151.58
3D body: height 16.84, standoff -2.84, extent 37.44,132 57.04,151.58
3D body: height 16.84, standoff -2.84, extent -183.03,132 -163.43,151.58
3D body: height 16.84, standoff -2.84, extent -151.54,132 -131.93,151.58
3D body: height 16.84, standoff -2.84, extent -120.04,132 -100.44,151.58
3D body: height 16.84, standoff -2.84, extent -88.54,132 -68.94,151.58
3D body: height 16.84, standoff -2.84, extent -214.53,132 -194.93,151.58
3D body: height 16.84, standoff -2.84, extent -246.02,132 -226.42,151.58
3D body: height 16.84, standoff -2.84, extent -277.52,132 -257.92,151.58
3D body: height 16.84, standoff -2.84, extent -309.02,132 -289.41,151.58
3D body: height 16.84, standoff -2.84, extent 320.91,100.5 340.51,120.09
3D body: height 16.84, standoff -2.84, extent 194.92,100.5 214.52,120.09
3D body: height 16.84, standoff -2.84, extent 226.42,100.5 246.02,120.09
3D body: height 16.84, standoff -2.84, extent 257.91,100.5 277.52,120.09
3D body: height 16.84, standoff -2.84, extent 289.41,100.5 309.01,120.09
3D body: height 16.84, standoff -2.84, extent 68.94,100.5 88.54,120.09
3D body: height 16.84, standoff -2.84, extent 100.43,100.5 120.04,120.09
3D body: height 16.84, standoff -2.84, extent 131.93,100.5 151.53,120.09
3D body: height 16.84, standoff -2.84, extent 163.42,100.5 183.03,120.09
3D body: height 16.84, standoff -2.84, extent -57.05,100.5 -37.44,120.09
3D body: height 16.84, standoff -2.84, extent -25.55,100.5 -5.95,120.09
3D body: height 16.84, standoff -2.84, extent 5.94,100.5 25.55,120.09
3D body: height 16.84, standoff -2.84, extent 37.44,100.5 57.04,120.09
3D body: height 16.84, standoff -2.84, extent -183.03,100.5 -163.43,120.09
3D body: height 16.84, standoff -2.84, extent -151.54,100.5 -131.93,120.09
3D body: height 16.84, standoff -2.84, extent -120.04,100.5 -100.44,120.09
3D body: height 16.84, standoff -2.84, extent -88.54,100.5 -68.94,120.09
3D body: height 16.84, standoff -2.84, extent -214.53,100.5 -194.93,120.09
3D body: height 16.84, standoff -2.84, extent -246.02,100.5 -226.42,120.09
3D body: height 16.84, standoff -2.84, extent -277.52,100.5 -257.92,120.09
3D body: height 16.84, standoff -2.84, extent -309.02,100.5 -289.41,120.09
3D body: height 16.84, standoff -2.84, extent 320.91,69.01 340.51,88.59
3D body: height 16.84, standoff -2.84, extent 194.92,69.01 214.52,88.59
3D body: height 16.84, standoff -2.84, extent 226.42,69.01 246.02,88.59
3D body: height 16.84, standoff -2.84, extent 257.91,69.01 277.52,88.59
3D body: height 16.84, standoff -2.84, extent 289.41,69.01 309.01,88.59
3D body: height 16.84, standoff -2.84, extent 68.94,69.01 88.54,88.59
3D body: height 16.84, standoff -2.84, extent 100.43,69.01 120.04,88.59
3D body: height 16.84, standoff -2.84, extent 131.93,69.01 151.53,88.59
3D body: height 16.84, standoff -2.84, extent 163.42,69.01 183.03,88.59
3D body: height 16.84, standoff -2.84, extent -57.05,69.01 -37.44,88.59
3D body: height 16.84, standoff -2.84, extent -25.55,69.01 -5.95,88.59
3D body: height 16.84, standoff -2.84, extent 5.94,69.01 25.55,88.59
3D body: height 16.84, standoff -2.84, extent 37.44,69.01 57.04,88.59
3D body: height 16.84, standoff -2.84, extent -183.03,69.01 -163.43,88.59
3D body: height 16.84, standoff -2.84, extent -151.54,69.01 -131.93,88.59
3D body: height 16.84, standoff -2.84, extent -120.04,69.01 -100.44,88.59
3D body: height 16.84, standoff -2.84, extent -88.54,69.01 -68.94,88.59
3D body: height 16.84, standoff -2.84, extent -214.53,69.01 -194.93,88.59
3D body: height 16.84, standoff -2.84, extent -246.02,69.01 -226.42,88.59
3D body: height 16.84, standoff -2.84, extent -277.52,69.01 -257.92,88.59
3D body: height 16.84, standoff -2.84, extent -309.02,69.01 -289.41,88.59
3D body: height 16.84, standoff -2.84, extent 320.91,37.51 340.51,57.09
3D body: height 16.84, standoff -2.84, extent 194.92,37.51 214.52,57.09
3D body: height 16.84, standoff -2.84, extent 226.42,37.51 246.02,57.09
3D body: height 16.84, standoff -2.84, extent 257.91,37.51 277.52,57.09
3D body: height 16.84, standoff -2.84, extent 289.41,37.51 309.01,57.09
3D body: height 16.84, standoff -2.84, extent 68.94,37.51 88.54,57.09
3D body: height 16.84, standoff -2.84, extent 100.43,37.51 120.04,57.09
3D body: height 16.84, standoff -2.84, extent 131.93,37.51 151.53,57.09
3D body: height 16.84, standoff -2.84, extent 163.42,37.51 183.03,57.09
3D body: height 16.84, standoff -2.84, extent -57.05,37.51 -37.44,57.09
3D body: height 16.84, standoff -2.84, extent -25.55,37.51 -5.95,57.09
3D body: height 16.84, standoff -2.84, extent 5.94,37.51 25.55,57.09
3D body: height 16.84, standoff -2.84, extent 37.44,37.51 57.04,57.09
3D body: height 16.84, standoff -2.84, extent -183.03,37.51 -163.43,57.09
3D body: height 16.84, standoff -2.84, extent -151.54,37.51 -131.93,57.09
3D body: height 16.84, standoff -2.84, extent -120.04,37.51 -100.44,57.09
3D body: height 16.84, standoff -2.84, extent -88.54,37.51 -68.94,57.09
3D body: height 16.84, standoff -2.84, extent -214.53,37.51 -194.93,57.09
3D body: height 16.84, standoff -2.84, extent -246.02,37.51 -226.42,57.09
3D body: height 16.84, standoff -2.84, extent -277.52,37.51 -257.92,57.09
3D body: height 16.84, standoff -2.84, extent -309.02,37.51 -289.41,57.09
3D body: height 16.84, standoff -2.84, extent -309.02,194.99 -289.41,214.57
3D body: height 16.84, standoff -2.84, extent -277.52,194.99 -257.92,214.57
3D body: height 16.84, standoff -2.84, extent -246.02,194.99 -226.42,214.57
3D body: height 16.84, standoff -2.84, extent -214.53,194.99 -194.93,214.57
3D body: height 16.84, standoff -2.84, extent -88.54,194.99 -68.94,214.57
3D body: height 16.84, standoff -2.84, extent -120.04,194.99 -100.44,214.57
3D body: height 16.84, standoff -2.84, extent -151.54,194.99 -131.93,214.57
3D body: height 16.84, standoff -2.84, extent -183.03,194.99 -163.43,214.57
3D body: height 16.84, standoff -2.84, extent 37.44,194.99 57.04,214.57
3D body: height 16.84, standoff -2.84, extent 5.94,194.99 25.55,214.57
3D body: height 16.84, standoff -2.84, extent -25.55,194.99 -5.95,214.57
3D body: height 16.84, standoff -2.84, extent -57.05,194.99 -37.44,214.57
3D body: height 16.84, standoff -2.84, extent 163.42,194.99 183.03,214.57
3D body: height 16.84, standoff -2.84, extent 131.93,194.99 151.53,214.57
3D body: height 16.84, standoff -2.84, extent 100.43,194.99 120.04,214.57
3D body: height 16.84, standoff -2.84, extent 68.94,194.99 88.54,214.57
3D body: height 16.84, standoff -2.84, extent 289.41,194.99 309.01,214.57
3D body: height 16.84, standoff -2.84, extent 257.91,194.99 277.52,214.57
3D body: height 16.84, standoff -2.84, extent 226.42,194.99 246.02,214.57
3D body: height 16.84, standoff -2.84, extent 194.92,194.99 214.52,214.57
3D body: height 16.84, standoff -2.84, extent 320.91,194.99 340.51,214.57
3D body: height 16.84, standoff -2.84, extent -309.02,226.49 -289.41,246.07
3D body: height 16.84, standoff -2.84, extent -277.52,226.49 -257.92,246.07
3D body: height 16.84, standoff -2.84, extent -246.02,226.49 -226.42,246.07
3D body: height 16.84, standoff -2.84, extent -214.53,226.49 -194.93,246.07
3D body: height 16.84, standoff -2.84, extent -88.54,226.49 -68.94,246.07
3D body: height 16.84, standoff -2.84, extent -120.04,226.49 -100.44,246.07
3D body: height 16.84, standoff -2.84, extent -151.54,226.49 -131.93,246.07
3D body: height 16.84, standoff -2.84, extent -183.03,226.49 -163.43,246.07
3D body: height 16.84, standoff -2.84, extent 37.44,226.49 57.04,246.07
3D body: height 16.84, standoff -2.84, extent 5.94,226.49 25.55,246.07
3D body: height 16.84, standoff -2.84, extent -25.55,226.49 -5.95,246.07
3D body: height 16.84, standoff -2.84, extent -57.05,226.49 -37.44,246.07
3D body: height 16.84, standoff -2.84, extent 163.42,226.49 183.03,246.07
3D body: height 16.84, standoff -2.84, extent 131.93,226.49 151.53,246.07
3D body: height 16.84, standoff -2.84, extent 100.43,226.49 120.04,246.07
3D body: height 16.84, standoff -2.84, extent 68.94,226.49 88.54,246.07
3D body: height 16.84, standoff -2.84, extent 289.41,226.49 309.01,246.07
3D body: height 16.84, standoff -2.84, extent 257.91,226.49 277.52,246.07
3D body: height 16.84, standoff -2.84, extent 226.42,226.49 246.02,246.07
3D body: height 16.84, standoff -2.84, extent 194.92,226.49 214.52,246.07
3D body: height 16.84, standoff -2.84, extent 320.91,226.49 340.51,246.07
3D body: height 16.84, standoff -2.84, extent -309.02,257.98 -289.41,277.57
3D body: height 16.84, standoff -2.84, extent -277.52,257.98 -257.92,277.57
3D body: height 16.84, standoff -2.84, extent -246.02,257.98 -226.42,277.57
3D body: height 16.84, standoff -2.84, extent -214.53,257.98 -194.93,277.57
3D body: height 16.84, standoff -2.84, extent -88.54,257.98 -68.94,277.57
3D body: height 16.84, standoff -2.84, extent -120.04,257.98 -100.44,277.57
3D body: height 16.84, standoff -2.84, extent -151.54,257.98 -131.93,277.57
3D body: height 16.84, standoff -2.84, extent -183.03,257.98 -163.43,277.57
3D body: height 16.84, standoff -2.84, extent 37.44,257.98 57.04,277.57
3D body: height 16.84, standoff -2.84, extent 5.94,257.98 25.55,277.57
3D body: height 16.84, standoff -2.84, extent -25.55,257.98 -5.95,277.57
3D body: height 16.84, standoff -2.84, extent -57.05,257.98 -37.44,277.57
3D body: height 16.84, standoff -2.84, extent 163.42,257.98 183.03,277.57
3D body: height 16.84, standoff -2.84, extent 131.93,257.98 151.53,277.57
3D body: height 16.84, standoff -2.84, extent 100.43,257.98 120.04,277.57
3D body: height 16.84, standoff -2.84, extent 68.94,257.98 88.54,277.57
3D body: height 16.84, standoff -2.84, extent 289.41,257.98 309.01,277.57
3D body: height 16.84, standoff -2.84, extent 257.91,257.98 277.52,277.57
3D body: height 16.84, standoff -2.84, extent 226.42,257.98 246.02,277.57
3D body: height 16.84, standoff -2.84, extent 194.92,257.98 214.52,277.57
3D body: height 16.84, standoff -2.84, extent 320.91,257.98 340.51,277.57
3D body: height 16.84, standoff -2.84, extent -309.02,289.48 -289.41,309.06
3D body: height 16.84, standoff -2.84, extent -277.52,289.48 -257.92,309.06
3D body: height 16.84, standoff -2.84, extent -246.02,289.48 -226.42,309.06
3D body: height 16.84, standoff -2.84, extent -214.53,289.48 -194.93,309.06
3D body: height 16.84, standoff -2.84, extent -88.54,289.48 -68.94,309.06
3D body: height 16.84, standoff -2.84, extent -120.04,289.48 -100.44,309.06
3D body: height 16.84, standoff -2.84, extent -151.54,289.48 -131.93,309.06
3D body: height 16.84, standoff -2.84, extent -183.03,289.48 -163.43,309.06
3D body: height 16.84, standoff -2.84, extent 37.44,289.48 57.04,309.06
3D body: height 16.84, standoff -2.84, extent 5.94,289.48 25.55,309.06
3D body: height 16.84, standoff -2.84, extent -25.55,289.48 -5.95,309.06
3D body: height 16.84, standoff -2.84, extent -57.05,289.48 -37.44,309.06
3D body: height 16.84, standoff -2.84, extent 163.42,289.48 183.03,309.06
3D body: height 16.84, standoff -2.84, extent 131.93,289.48 151.53,309.06
3D body: height 16.84, standoff -2.84, extent 100.43,289.48 120.04,309.06
3D body: height 16.84, standoff -2.84, extent 68.94,289.48 88.54,309.06
3D body: height 16.84, standoff -2.84, extent 289.41,289.48 309.01,309.06
3D body: height 16.84, standoff -2.84, extent 257.91,289.48 277.52,309.06
3D body: height 16.84, standoff -2.84, extent 226.42,289.48 246.02,309.06
3D body: height 16.84, standoff -2.84, extent 194.92,289.48 214.52,309.06
3D body: height 16.84, standoff -2.84, extent 320.91,289.48 340.51,309.06
3D body: height 16.84, standoff -2.84, extent 320.91,320.97 340.51,340.56
3D body: height 16.84, standoff -2.84, extent 194.92,320.97 214.52,340.56
3D body: height 16.84, standoff -2.84, extent 226.42,320.97 246.02,340.56
3D body: height 16.84, standoff -2.84, extent 257.91,320.97 277.52,340.56
3D body: height 16.84, standoff -2.84, extent 289.41,320.97 309.01,340.56
3D body: height 16.84, standoff -2.84, extent 68.94,320.97 88.54,340.56
3D body: height 16.84, standoff -2.84, extent 100.43,320.97 120.04,340.56
3D body: height 16.84, standoff -2.84, extent 131.93,320.97 151.53,340.56
3D body: height 16.84, standoff -2.84, extent 163.42,320.97 183.03,340.56
3D body: height 16.84, standoff -2.84, extent -57.05,320.97 -37.44,340.56
3D body: height 16.84, standoff -2.84, extent -25.55,320.97 -5.95,340.56
3D body: height 16.84, standoff -2.84, extent 5.94,320.97 25.55,340.56
3D body: height 16.84, standoff -2.84, extent 37.44,320.97 57.04,340.56
3D body: height 16.84, standoff -2.84, extent -183.03,320.97 -163.43,340.56
3D body: height 16.84, standoff -2.84, extent -151.54,320.97 -131.93,340.56
3D body: height 16.84, standoff -2.84, extent -120.04,320.97 -100.44,340.56
3D body: height 16.84, standoff -2.84, extent -88.54,320.97 -68.94,340.56
3D body: height 16.84, standoff -2.84, extent -214.53,320.97 -194.93,340.56
3D body: height 16.84, standoff -2.84, extent -246.02,320.97 -226.42,340.56
3D body: height 16.84, standoff -2.84, extent -277.52,320.97 -257.92,340.56
3D body: height 16.84, standoff -2.84, extent -309.02,320.97 -289.41,340.56
3D body: height 23.62, standoff 11.81, extent -374.02,-374.02 374.02,374.02